# Altium footprint library Con Audio Video.PcbLib: 2 footprints
Each footprint in its own frame and in the unit in brackets; x right, y up, seen from the top. Pads: shape width x height; smd on the part's side, far side on the other; paste and mask are expansions set on the pad; w line width, h text height; cw(c..) or ccw(c..) is an arc to the next point about the centre after c.
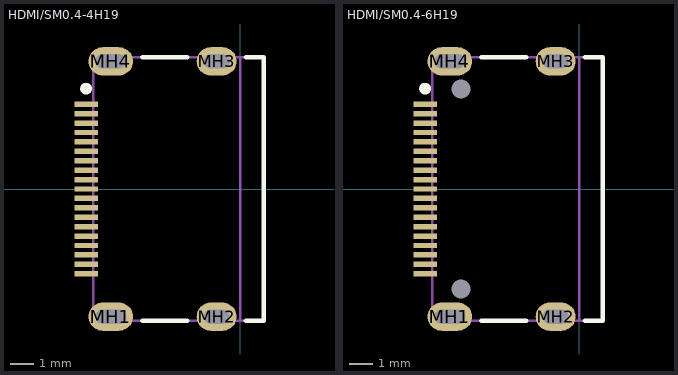
[diagram p0: the footprints below, top view; thin cyan lines are the x and y axes]

## HDMI/SM0.4-4H19 [mm] "3168 Series HDMI Type C, Female, Right-Angle, SMT"
height 3.3
pads (23):
  rect 1x0.23 smd: 1(-6.55,3.6) 2(-6.55,3.2) 3(-6.55,2.8) 4(-6.55,2.4) 5(-6.55,2) 6(-6.55,1.6) 7(-6.55,1.2) 8(-6.55,0.8) 9(-6.55,0.4) 10(-6.55,0) 11(-6.55,-0.4) 12(-6.55,-0.8) 13(-6.55,-1.2) 14(-6.55,-1.6) 15(-6.55,-2) 16(-6.55,-2.4) 17(-6.55,-2.8) 18(-6.55,-3.2) 19(-6.55,-3.6)
  oval 1.9x1.2 hole 0.6 slot 1.3 at 0 deg: MH1(-5.5,-5.425) MH4(-5.5,5.425)
  oval 1.7x1.2 hole 0.6 slot 1.1 at 0 deg: MH2(-1,-5.425) MH3(-1,5.425)
Top Overlay:
  circle w0.25: c-6.55,4.265 r0.125
  lines w0.2: -4.15,-5.6 -2.25,-5.6 ; -4.15,5.6 -2.25,5.6 ; 0.25,-5.6 1,-5.6 1,5.6 0.25,5.6
Mechanical 1:
  lines w0.1: 0,-5.6 0,5.6
  text "PCB Edge" at -0.3,-4.725 h0.25
Mechanical 13:
  lines w0.1: -6.25,-5.6 -6.25,5.6 1,5.6 1,-5.6 -6.25,-5.6
3D body: height 3.3, standoff 0, extent -6.3,-5.65 1.05,5.65

## HDMI/SM0.4-6H19 [mm] "3168 Series HDMI Type C, Female, Right-Angle, SMT"
height 3.3
pads (25):
  rect 1x0.23 smd: 1(-6.55,3.6) 2(-6.55,3.2) 3(-6.55,2.8) 4(-6.55,2.4) 5(-6.55,2) 6(-6.55,1.6) 7(-6.55,1.2) 8(-6.55,0.8) 9(-6.55,0.4) 10(-6.55,0) 11(-6.55,-0.4) 12(-6.55,-0.8) 13(-6.55,-1.2) 14(-6.55,-1.6) 15(-6.55,-2) 16(-6.55,-2.4) 17(-6.55,-2.8) 18(-6.55,-3.2) 19(-6.55,-3.6)
  oval 1.9x1.2 hole 0.6 slot 1.3 at 0 deg: MH1(-5.5,-5.425) MH4(-5.5,5.425)
  oval 1.7x1.2 hole 0.6 slot 1.1 at 0 deg: MH2(-1,-5.425) MH3(-1,5.425)
  round 0.5 hole 0.8 unplated: MH5(-5.025,-4.25) MH6(-5.025,4.25)
Top Overlay:
  circle w0.25: c-6.55,4.265 r0.125
  lines w0.2: -4.15,-5.6 -2.25,-5.6 ; -4.15,5.6 -2.25,5.6 ; 0.25,-5.6 1,-5.6 1,5.6 0.25,5.6
Mechanical 1:
  lines w0.1: 0,-5.6 0,5.6
  text "PCB Edge" at -0.3,-4.725 h0.25
Mechanical 13:
  lines w0.1: -6.25,-5.6 -6.25,5.6 1,5.6 1,-5.6 -6.25,-5.6
3D body: height 3.3, standoff 0, extent -6.3,-5.65 1.05,5.65